# Altium footprint library ISP Header.PcbLib: 1 footprints
Each footprint in its own frame and in the unit in brackets; x right, y up, seen from the top. Pads: shape width x height; smd on the part's side, far side on the other; paste and mask are expansions set on the pad; w line width, h text height; cw(c..) or ccw(c..) is an arc to the next point about the centre after c.
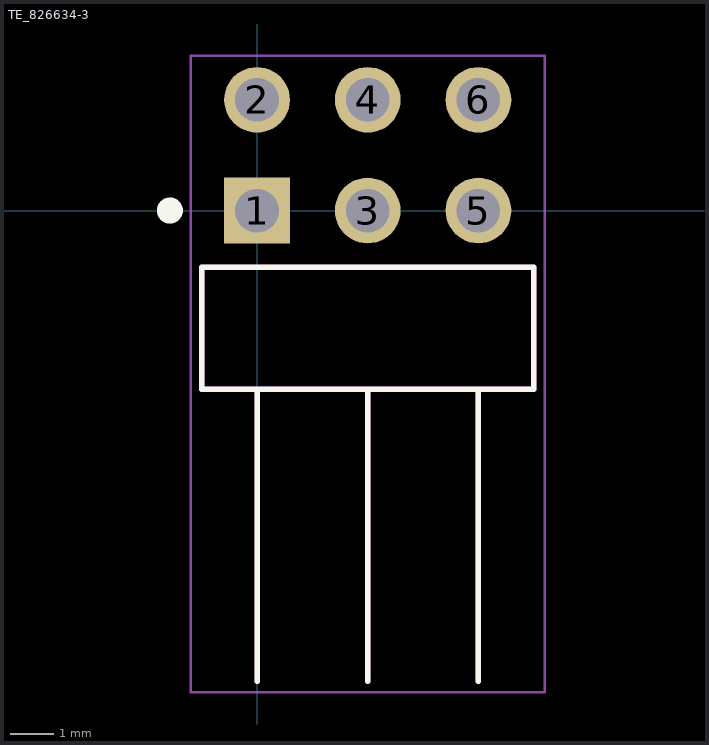
[diagram p0: the footprint, top view; thin cyan lines are the x and y axes]

## TE_826634-3 [mm]
pads (6):
  rect 1.508x1.508 hole 1: 1(0,0)
  round 1.508 hole 1: 2(0,2.54) 3(2.54,0) 4(2.54,2.54) 5(5.08,0) 6(5.08,2.54)
Top Overlay:
  circle w0.3: c-2,0 r0.15
  lines w0.127: 0,-10.8 0,-4.1 ; 2.54,-10.8 2.54,-4.1 ; 5.08,-10.8 5.08,-4.1 ; 0,-4.1 2.54,-4.1 ; 0,-4.1 -1.27,-4.1 -1.27,-1.3 6.35,-1.3 6.35,-4.1 5.08,-4.1 ; 2.54,-4.1 5.08,-4.1
Mechanical 4:
  lines w0.127: -1.27,-4.1 0,-4.1 ; -1.27,-4.1 -1.27,-1.3 ; -1.27,-4.1 0,-4.1 ; -1.27,-4.1 -1.27,-1.3 ; -1.27,-1.3 6.35,-1.3 ; -1.27,-1.3 6.35,-1.3 ; 0,-4.1 0,-10.8 0,-4.1 ; 0,-4.1 2.54,-4.1 ; 0,-4.1 2.54,-4.1 ; 2.54,-4.1 2.54,-10.8 2.54,-4.1 ; 2.54,-4.1 5.08,-4.1 ; 2.54,-4.1 5.08,-4.1 ; 5.08,-4.1 5.08,-10.8 5.08,-4.1 ; 5.08,-4.1 6.35,-4.1 ; 5.08,-4.1 6.35,-4.1 ; 6.35,-4.1 6.35,-1.3 ; 6.35,-4.1 6.35,-1.3
Mechanical 16:
  lines w0.05: -1.52,-11.05 6.6,-11.05 6.6,3.55 -1.52,3.55 -1.52,-11.05